# Altium integrated library Кондер 1нФ.IntLib: 1 symbol
Pins are listed as number, name and electrical type; pins without a type are passive.

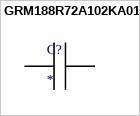
[diagram p0: symbol GRM188R72A102KA01D]

## GRM188R72A102KA01D
designator C?
SMD Capacitor X7R(EIA) with Capacitance: 1000pF Tol. 10%. Rated Voltage: 100Vdc; Типоразмер: 0603; Емкость: 1 нФ; Т коэф. емкости: Х7R; Точность: 10%; Рабочее напряжение: 100 В; Ссылка: https://www.chipdip.ru/product/1000pf-x7r-100v-10-0603-grm188r72a102ka01d-murata-9000121448
footprint CAPC1608X90N
pins: 1, 2